# EAGLE library part ESP8266 (library parts)
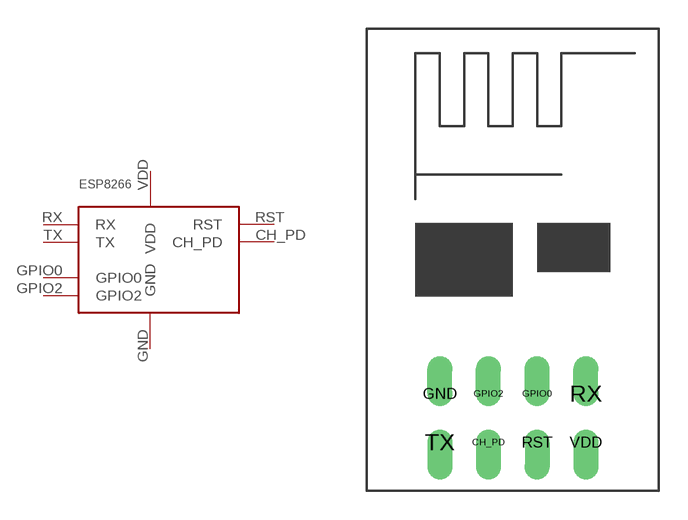
[diagram p1: symbol with the pads of ESP8266; footprint ESP8266]

Designator prefix -

## ESP8266  [ESP8266]
CH_PD  CH_PD
GND  GND
GPIO0  GPIO0
GPIO2  GPIO2
RST  RST
RX  RX
TX  TX
VDD  VDD

## Footprint ESP8266 (pad centres in mm)
drill 0.8 offset: CH_PD -1.27,-3.81; GND -3.81,-1.27; GPIO0 1.27,-1.27; GPIO2 -1.27,-1.27; RST 1.27,-3.81; RX 3.81,-1.27; TX -3.81,-3.81; VDD 3.81,-3.81